# Altium schematic symbol library Schlib1.SchLib: 18 symbols
Pins are listed as number, name and electrical type; pins without a type are passive.

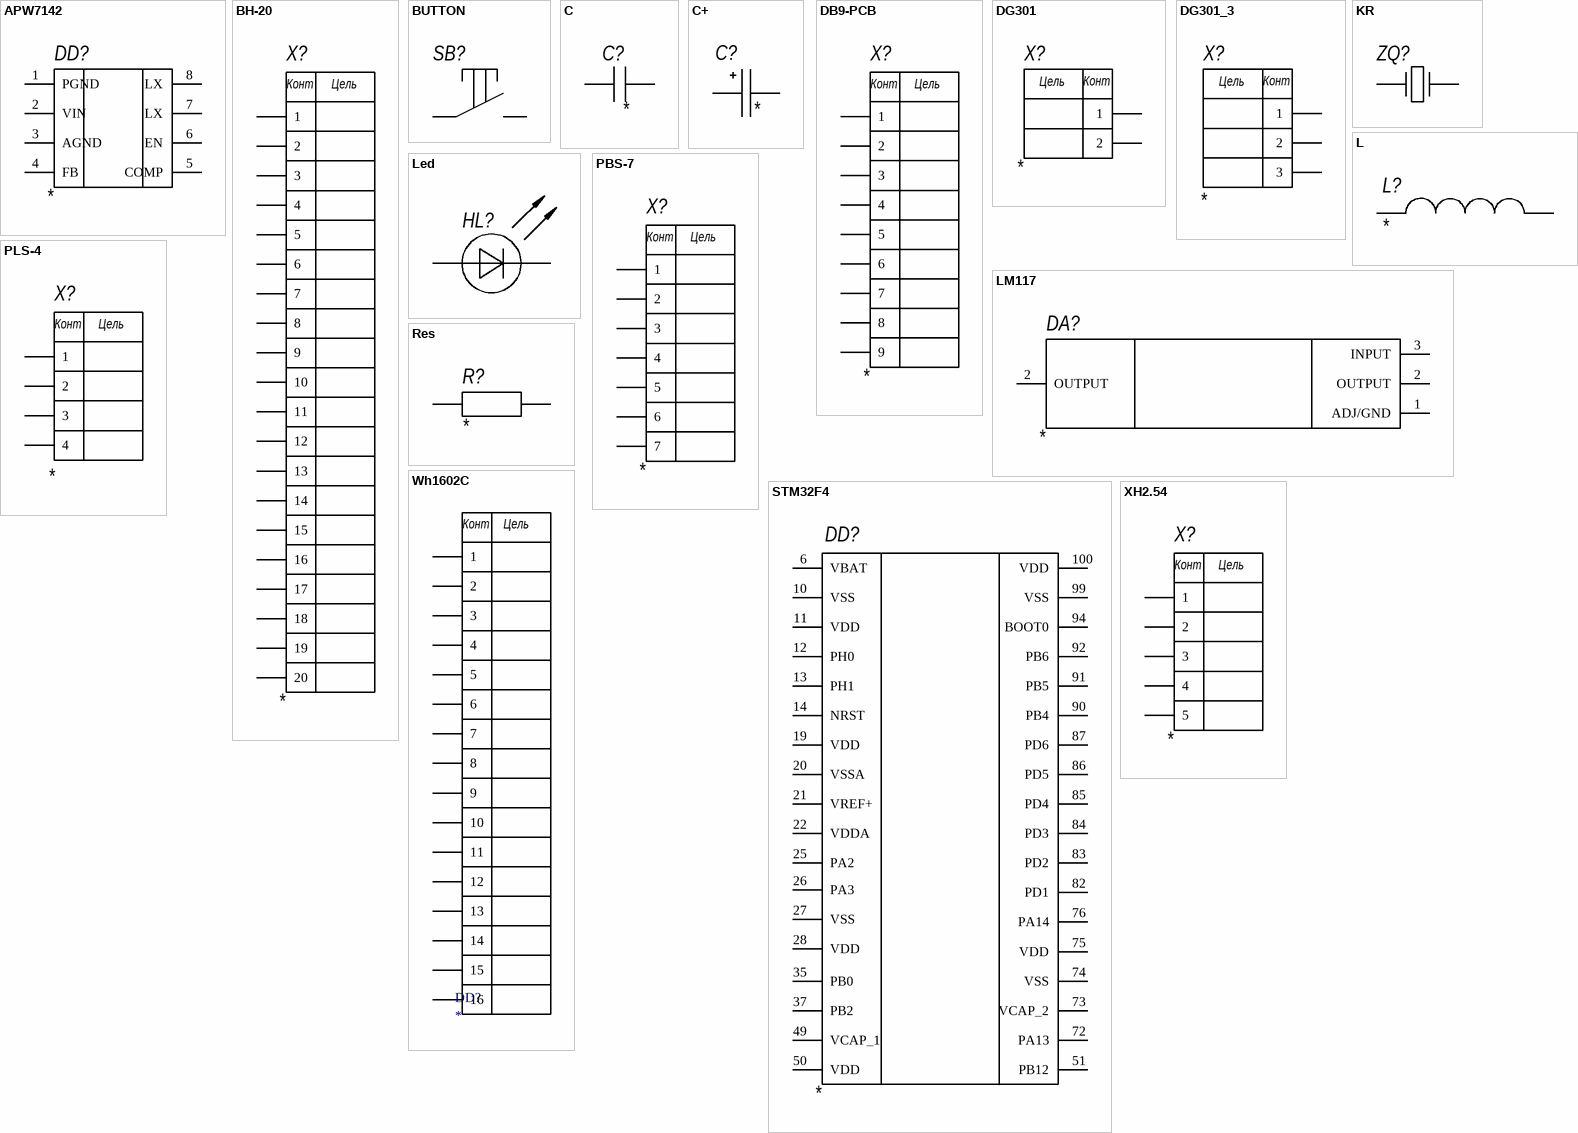
[diagram p0: symbols APW7142 to XH2.54]

## APW7142
designator DD?
footprint APW7142
pins: 1 PGND, 2 VIN, 3 AGND, 4 FB, 5 COMP, 6 EN, 7 LX, 8 LX

## BH-20
designator X?
footprint BH-20
pins: 1, 2, 3, 4, 5, 6, 7, 8, 9, 10, 11, 12, 13, 14, 15, 16, 17, 18, 19, 20
text: Конт; Цель

## BUTTON
designator SB?  (value not drawn)
footprint RESET_BUTTON
pins: 1, 2

## C
designator C?
footprint R1206
pins: 1, 2

## C+
designator C?
footprint Rc3216
pins: 1, 2

## DB9-PCB
designator X?
footprint DB9-PCB
pins: 1, 2, 3, 4, 5, 6, 7, 8, 9
text: Конт; Цель

## DG301
designator X?
footprint DG301
pins: 1, 2
text: Цель; Конт

## DG301_3
designator X?
footprint DG301 - 3
pins: 1, 2, 3
text: Цель; Конт

## KR
designator ZQ?  (value not drawn)
footprint HC-49SM
pins: 1, 2

## L
designator L?
footprint R1206
pins: 1, 2

## Led
designator HL?  (value not drawn)
footprint LED
pins: 1, 2

## LM117
designator DA?
footprint TO220 (LM338)
pins: 1 ADJ/GND, 2 OUTPUT, 2 OUTPUT, 3 INPUT

## PBS-7
designator X?
footprint PBS7
pins: 1, 2, 3, 4, 5, 6, 7
text: Конт; Цель

## PLS-4
designator X?
footprint PLS4
pins: 1, 2, 3, 4
text: Конт; Цель

## Res
designator R?
footprint R1206
pins: 1, 2

## STM32F4
designator DD?
footprint STM32F4xx
pins: 6 VBAT, 10 VSS, 11 VDD, 12 PH0, 13 PH1, 14 NRST, 19 VDD, 20 VSSA, 21 VREF+, 22 VDDA, 25 PA2, 26 PA3, 27 VSS, 28 VDD, 35 PB0, 37 PB2, 49 VCAP_1, 50 VDD, 51 PB12, 72 PA13, 73 VCAP_2, 74 VSS, 75 VDD, 76 PA14, 82 PD1, 83 PD2, 84 PD3, 85 PD4, 86 PD5, 87 PD6, 90 PB4, 91 PB5, 92 PB6, 94 BOOT0, 99 VSS, 100 VDD

## Wh1602C
designator DD?
footprint PBS16
pins: 1, 2, 3, 4, 5, 7, 8, 9, 10, 11, 12, 13, 14, 15, 16, 18 6
text: Конт; Цель

## XH2.54
designator X?
footprint XH2.54 5p
pins: 1, 2, 3, 4, 5
text: Конт; Цель